# Altium footprint library led_lcd.pcblib: 17 footprints (part 2 of 2)
Each footprint in its own frame and in the unit in brackets; x right, y up, seen from the top. Pads: shape width x height; smd on the part's side, far side on the other; paste and mask are expansions set on the pad; w line width, h text height; cw(c..) or ccw(c..) is an arc to the next point about the centre after c.
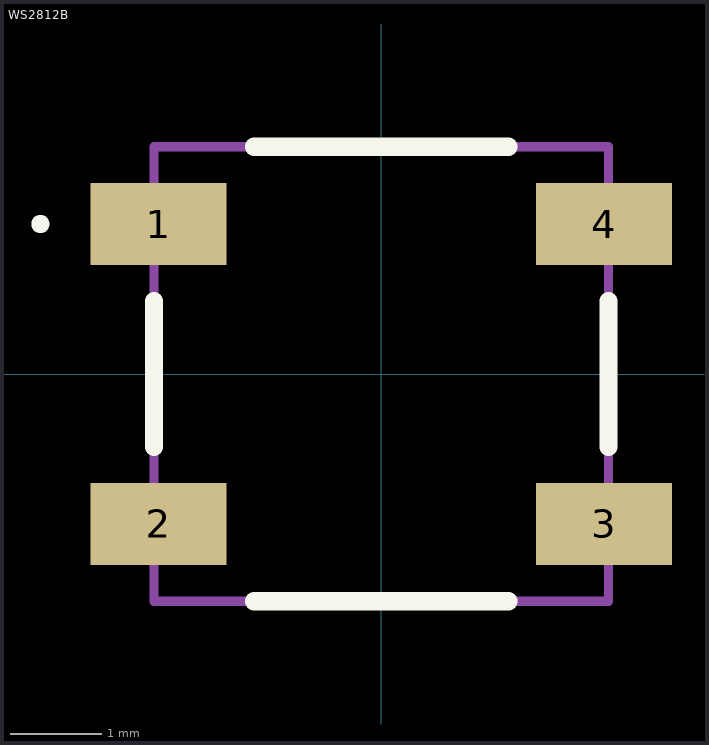
[diagram p1: the footprint, top view; thin cyan lines are the x and y axes]

## WS2812B [mm]
pads (4):
  rect 1.5x0.9 smd: 1(-2.45,1.65) 2(-2.45,-1.65) 3(2.45,-1.65) 4(2.45,1.65)
Top Overlay:
  lines w0.1: -3.8,1.65 ccw(c-3.75,1.65) -3.7,1.65 ccw(c-3.75,1.65) -3.8,1.65
  lines w0.2: -2.5,-0.8 -2.5,0.8 ; -1.4,-2.5 1.4,-2.5 ; -1.4,2.5 1.4,2.5 ; 2.5,-0.8 2.5,0.8
Plata3D:
  lines w0.1: -2.5,-2.5 2.5,-2.5 2.5,2.5 -2.5,2.5 -2.5,-2.5
3D body "WS2812B-V5.stp": height 1.6, standoff 0.03, extent -2.7,-2.5 2.7,2.5